# Altium integrated library MCU - AVR.IntLib: 58 symbols (part 2 of 2)
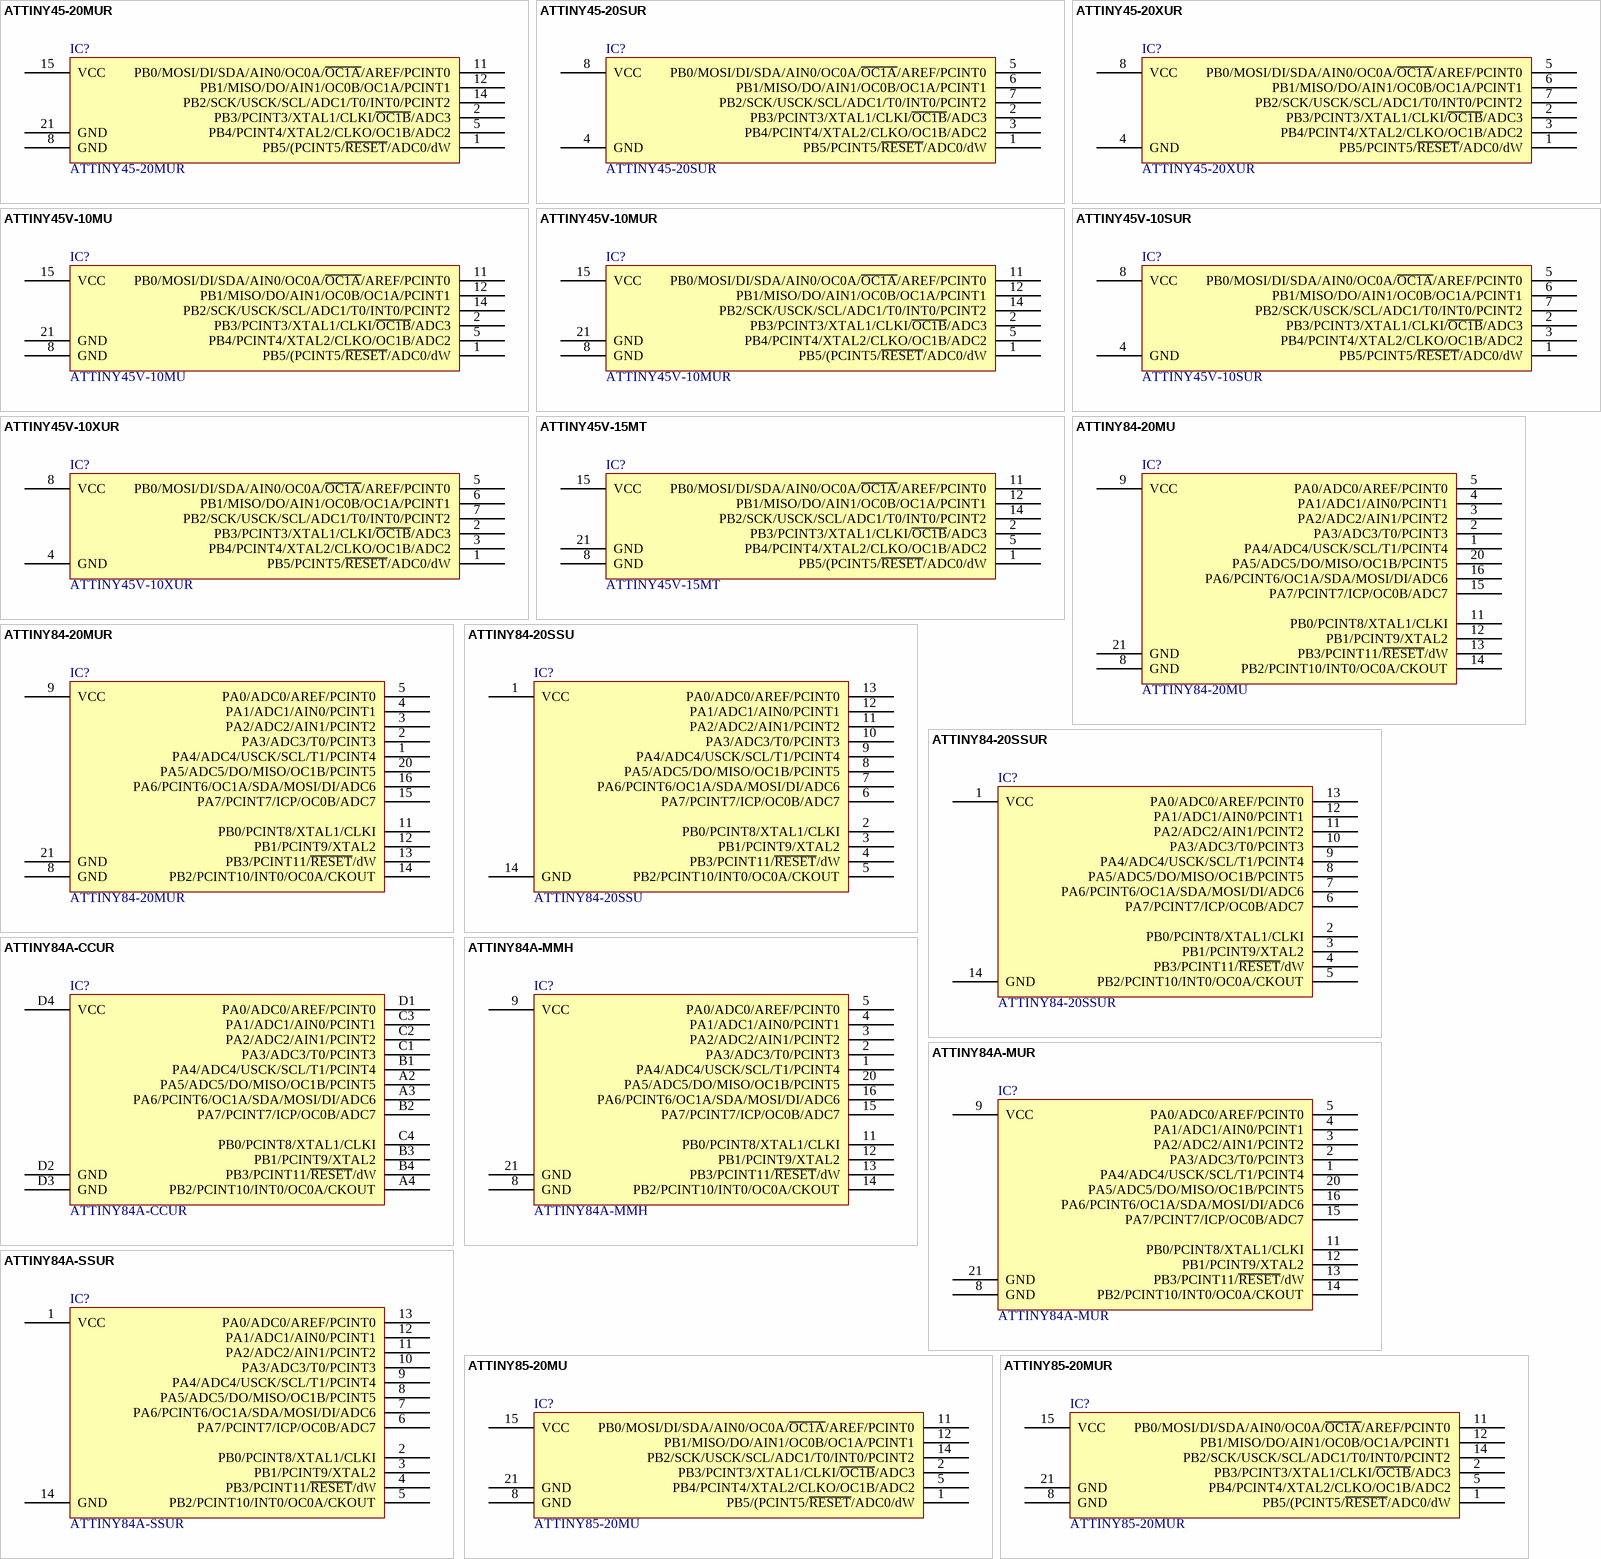
[diagram p4: symbols ATTINY45-20MUR to ATTINY85-20MUR]

## ATTINY84-20MUR
designator IC?
IC MCU 8BIT 8KB FLASH 20QFN; Manufacturer: Atmel; Core Processor: AVR; Core Size: 8-Bit; Speed: 20MHz; Number Of IO: 12; Program Memory Size: 8KB (4K x 16); EEPROM Size: 512 x 8; Data Converters: A/D 8x10b; Oscillator Type: Internal; Part Number: ATTINY84-20MUR; PartId: 9202; Supplier 1: Digi-Key; Supplier Part Number 1: ATTINY84-20MURTR-ND; ComponentLink1Description: Datasheet; ComponentLink1URL: http://www.atmel.com/Images/8006s.pdf; ComponentLink2Description: Digi-Key Listing; ComponentLink2URL: https://www.digikey.com/product-detail/en/ATTINY84-20MUR/ATTINY84-20MURTR-ND/2357431; Price: 1.7787; Device Package: 20-WFQFN Exposed Pad; Series: AVR® ATtiny; Program Memory Type: FLASH; Ram Size: 512 x 8
footprint Atmel MLF-20 20M1
pins: 1 PA4/ADC4/USCK/SCL/T1/PCINT4, 2 PA3/ADC3/T0/PCINT3, 3 PA2/ADC2/AIN1/PCINT2, 4 PA1/ADC1/AIN0/PCINT1, 5 PA0/ADC0/AREF/PCINT0, 8 GND, 9 VCC, 11 PB0/PCINT8/XTAL1/CLKI, 12 PB1/PCINT9/XTAL2, 13 PB3/PCINT11/~{RESET}/dW, 14 PB2/PCINT10/INT0/OC0A/CKOUT, 15 PA7/PCINT7/ICP/OC0B/ADC7, 16 PA6/PCINT6/OC1A/SDA/MOSI/DI/ADC6, 20 PA5/ADC5/DO/MISO/OC1B/PCINT5, 21 GND

## ATTINY84-20SSU
designator IC?
IC MCU 8BIT 8KB FLASH 14SOIC; Manufacturer: Atmel; Core Processor: AVR; Core Size: 8-Bit; Speed: 20MHz; Number Of IO: 12; Program Memory Size: 8KB (4K x 16); EEPROM Size: 512 x 8; Data Converters: A/D 8x10b; Oscillator Type: Internal; Part Number: ATTINY84-20SSU; PartId: 9193; Supplier 1: Digi-Key; Supplier Part Number 1: ATTINY84-20SSU-ND; ComponentLink1Description: Datasheet; ComponentLink1URL: http://www.atmel.com/Images/8006s.pdf; ComponentLink2Description: Digi-Key Listing; ComponentLink2URL: https://www.digikey.com/product-detail/en/ATTINY84-20SSU/ATTINY84-20SSU-ND/1886247; Price: 3.4; Device Package: 14-SOIC (0.154", 3.90mm Width); Series: AVR® ATtiny; Program Memory Type: FLASH; Ram Size: 512 x 8
footprint Atmel SO-14 14S1
pins: 1 VCC, 2 PB0/PCINT8/XTAL1/CLKI, 3 PB1/PCINT9/XTAL2, 4 PB3/PCINT11/~{RESET}/dW, 5 PB2/PCINT10/INT0/OC0A/CKOUT, 6 PA7/PCINT7/ICP/OC0B/ADC7, 7 PA6/PCINT6/OC1A/SDA/MOSI/DI/ADC6, 8 PA5/ADC5/DO/MISO/OC1B/PCINT5, 9 PA4/ADC4/USCK/SCL/T1/PCINT4, 10 PA3/ADC3/T0/PCINT3, 11 PA2/ADC2/AIN1/PCINT2, 12 PA1/ADC1/AIN0/PCINT1, 13 PA0/ADC0/AREF/PCINT0, 14 GND

## ATTINY84-20SSUR
designator IC?
IC MCU 8BIT 8KB FLASH 14SOIC; Manufacturer: Atmel; Core Processor: AVR; Core Size: 8-Bit; Speed: 20MHz; Number Of IO: 12; Program Memory Size: 8KB (4K x 16); EEPROM Size: 512 x 8; Data Converters: A/D 8x10b; Oscillator Type: Internal; Part Number: ATTINY84-20SSUR; PartId: 9196; Supplier 1: Digi-Key; Supplier Part Number 1: ATTINY84-20SSURTR-ND; ComponentLink1Description: Datasheet; ComponentLink1URL: http://www.atmel.com/Images/8006s.pdf; ComponentLink2Description: Digi-Key Listing; ComponentLink2URL: https://www.digikey.com/product-detail/en/ATTINY84-20SSUR/ATTINY84-20SSURTR-ND/2357433; Price: 1.7187; Device Package: 14-SOIC (0.154", 3.90mm Width); Series: AVR® ATtiny; Program Memory Type: FLASH; Ram Size: 512 x 8
footprint Atmel SO-14 14S1
pins: 1 VCC, 2 PB0/PCINT8/XTAL1/CLKI, 3 PB1/PCINT9/XTAL2, 4 PB3/PCINT11/~{RESET}/dW, 5 PB2/PCINT10/INT0/OC0A/CKOUT, 6 PA7/PCINT7/ICP/OC0B/ADC7, 7 PA6/PCINT6/OC1A/SDA/MOSI/DI/ADC6, 8 PA5/ADC5/DO/MISO/OC1B/PCINT5, 9 PA4/ADC4/USCK/SCL/T1/PCINT4, 10 PA3/ADC3/T0/PCINT3, 11 PA2/ADC2/AIN1/PCINT2, 12 PA1/ADC1/AIN0/PCINT1, 13 PA0/ADC0/AREF/PCINT0, 14 GND

## ATTINY84A-CCUR
designator IC?
IC MCU 8BIT 8KB FLASH 15UFBGA; Manufacturer: Atmel; Core Processor: AVR; Core Size: 8-Bit; Speed: 20MHz; Number Of IO: 12; Program Memory Size: 8KB (4K x 16); EEPROM Size: 512 x 8; Data Converters: A/D 8x10b; Oscillator Type: Internal; Part Number: ATTINY84A-CCUR; PartId: 9192; Supplier 1: Digi-Key; Supplier Part Number 1: ATTINY84A-CCURTR-ND; ComponentLink1Description: Datasheet; ComponentLink1URL: http://www.atmel.com/Images/8183s.pdf; ComponentLink2Description: Digi-Key Listing; ComponentLink2URL: https://www.digikey.com/product-detail/en/ATTINY84A-CCUR/ATTINY84A-CCURTR-ND/2774106; Price: 0.8337; Device Package: 15-UFBGA; Series: AVR® ATtiny; Program Memory Type: FLASH; Ram Size: 512 x 8
footprint Atmel BGA-15 3x3mm 15CC1
pins: A2 PA5/ADC5/DO/MISO/OC1B/PCINT5, A3 PA6/PCINT6/OC1A/SDA/MOSI/DI/ADC6, A4 PB2/PCINT10/INT0/OC0A/CKOUT, B1 PA4/ADC4/USCK/SCL/T1/PCINT4, B2 PA7/PCINT7/ICP/OC0B/ADC7, B3 PB1/PCINT9/XTAL2, B4 PB3/PCINT11/~{RESET}/dW, C1 PA3/ADC3/T0/PCINT3, C2 PA2/ADC2/AIN1/PCINT2, C3 PA1/ADC1/AIN0/PCINT1, C4 PB0/PCINT8/XTAL1/CLKI, D1 PA0/ADC0/AREF/PCINT0, D2 GND, D3 GND, D4 VCC

## ATTINY84A-MMH
designator IC?
IC MCU 8BIT 8KB FLASH 20VQFN; Manufacturer: Atmel; Core Processor: AVR; Core Size: 8-Bit; Speed: 20MHz; Number Of IO: 12; Program Memory Size: 8KB (4K x 16); EEPROM Size: 512 x 8; Data Converters: A/D 8x10b; Oscillator Type: Internal; Part Number: ATTINY84A-MMH; PartId: 9189; Supplier 1: Digi-Key; Supplier Part Number 1: ATTINY84A-MMH-ND; ComponentLink1Description: Datasheet; ComponentLink1URL: http://www.atmel.com/Images/8183s.pdf; ComponentLink2Description: Digi-Key Listing; ComponentLink2URL: https://www.digikey.com/product-detail/en/ATTINY84A-MMH/ATTINY84A-MMH-ND/3046449; Price: 1.87; Device Package: 20-VFQFN Exposed Pad; Series: AVR® ATtiny; Program Memory Type: FLASH; Ram Size: 512 x 8
footprint Atmel VQFN-20 3x3mm 20M2
pins: 1 PA4/ADC4/USCK/SCL/T1/PCINT4, 2 PA3/ADC3/T0/PCINT3, 3 PA2/ADC2/AIN1/PCINT2, 4 PA1/ADC1/AIN0/PCINT1, 5 PA0/ADC0/AREF/PCINT0, 8 GND, 9 VCC, 11 PB0/PCINT8/XTAL1/CLKI, 12 PB1/PCINT9/XTAL2, 13 PB3/PCINT11/~{RESET}/dW, 14 PB2/PCINT10/INT0/OC0A/CKOUT, 15 PA7/PCINT7/ICP/OC0B/ADC7, 16 PA6/PCINT6/OC1A/SDA/MOSI/DI/ADC6, 20 PA5/ADC5/DO/MISO/OC1B/PCINT5, 21 GND

## ATTINY84A-MUR
designator IC?
IC MCU 8BIT 8KB FLASH 20QFN; Manufacturer: Atmel; Core Processor: AVR; Core Size: 8-Bit; Speed: 20MHz; Number Of IO: 12; Program Memory Size: 8KB (4K x 16); EEPROM Size: 512 x 8; Data Converters: A/D 8x10b; Oscillator Type: Internal; Part Number: ATTINY84A-MUR; PartId: 9182; Supplier 1: Digi-Key; Supplier Part Number 1: ATTINY84A-MURTR-ND; ComponentLink1Description: Datasheet; ComponentLink1URL: http://www.atmel.com/Images/8183s.pdf; ComponentLink2Description: Digi-Key Listing; ComponentLink2URL: https://www.digikey.com/product-detail/en/ATTINY84A-MUR/ATTINY84A-MURTR-ND/2774108; Price: 0.825; Device Package: 20-WFQFN Exposed Pad; Series: AVR® ATtiny; Program Memory Type: FLASH; Ram Size: 512 x 8
footprint Atmel MLF-20 20M1
pins: 1 PA4/ADC4/USCK/SCL/T1/PCINT4, 2 PA3/ADC3/T0/PCINT3, 3 PA2/ADC2/AIN1/PCINT2, 4 PA1/ADC1/AIN0/PCINT1, 5 PA0/ADC0/AREF/PCINT0, 8 GND, 9 VCC, 11 PB0/PCINT8/XTAL1/CLKI, 12 PB1/PCINT9/XTAL2, 13 PB3/PCINT11/~{RESET}/dW, 14 PB2/PCINT10/INT0/OC0A/CKOUT, 15 PA7/PCINT7/ICP/OC0B/ADC7, 16 PA6/PCINT6/OC1A/SDA/MOSI/DI/ADC6, 20 PA5/ADC5/DO/MISO/OC1B/PCINT5, 21 GND

## ATTINY84A-SSUR
designator IC?
IC MCU 8BIT 8KB FLASH 14SOIC; Manufacturer: Atmel; Core Processor: AVR; Core Size: 8-Bit; Speed: 20MHz; Number Of IO: 12; Program Memory Size: 8KB (4K x 16); EEPROM Size: 512 x 8; Data Converters: A/D 8x10b; Oscillator Type: Internal; Part Number: ATTINY84A-SSUR; PartId: 9185; Supplier 1: Digi-Key; Supplier Part Number 1: ATTINY84A-SSURTR-ND; ComponentLink1Description: Datasheet; ComponentLink1URL: http://www.atmel.com/Images/8183s.pdf; ComponentLink2Description: Digi-Key Listing; ComponentLink2URL: https://www.digikey.com/product-detail/en/ATTINY84A-SSUR/ATTINY84A-SSURTR-ND/2774109; Price: 0.775; Device Package: 14-SOIC (0.154", 3.90mm Width); Series: AVR® ATtiny; Program Memory Type: FLASH; Ram Size: 512 x 8
footprint Atmel SO-14 14S1
pins: 1 VCC, 2 PB0/PCINT8/XTAL1/CLKI, 3 PB1/PCINT9/XTAL2, 4 PB3/PCINT11/~{RESET}/dW, 5 PB2/PCINT10/INT0/OC0A/CKOUT, 6 PA7/PCINT7/ICP/OC0B/ADC7, 7 PA6/PCINT6/OC1A/SDA/MOSI/DI/ADC6, 8 PA5/ADC5/DO/MISO/OC1B/PCINT5, 9 PA4/ADC4/USCK/SCL/T1/PCINT4, 10 PA3/ADC3/T0/PCINT3, 11 PA2/ADC2/AIN1/PCINT2, 12 PA1/ADC1/AIN0/PCINT1, 13 PA0/ADC0/AREF/PCINT0, 14 GND

## ATTINY85-20MU
designator IC?
IC MCU 8BIT 8KB FLASH 20QFN; Manufacturer: Atmel; Core Processor: AVR; Core Size: 8-Bit; Speed: 20MHz; Number Of IO: 6; Program Memory Size: 8KB (4K x 16); EEPROM Size: 512 x 8; Data Converters: A/D 4x10b; Oscillator Type: Internal; Part Number: ATTINY85-20MU; PartId: 9174; Supplier 1: Digi-Key; Supplier Part Number 1: ATTINY85-20MU-ND; ComponentLink1Description: Datasheet; ComponentLink1URL: http://www.atmel.com/Images/Atmel-2586-AVR-8-bit-Microcontroller-ATtiny25-ATtiny45-ATtiny85_Datasheet-Summary.pdf; ComponentLink2Description: Digi-Key Listing; ComponentLink2URL: https://www.digikey.com/product-detail/en/ATTINY85-20MU/ATTINY85-20MU-ND/1245919; Price: 1.65; Device Package: 20-WFQFN Exposed Pad; Series: AVR® ATtiny; Program Memory Type: FLASH; Ram Size: 512 x 8
footprint Atmel MLF-20 20M1
pins: 1 PB5/(PCINT5/~{RESET}/ADC0/dW, 2 PB3/PCINT3/XTAL1/CLKI/~{OC1B}/ADC3, 5 PB4/PCINT4/XTAL2/CLKO/OC1B/ADC2, 8 GND, 11 PB0/MOSI/DI/SDA/AIN0/OC0A/~{OC1A}/AREF/PCINT0, 12 PB1/MISO/DO/AIN1/OC0B/OC1A/PCINT1, 14 PB2/SCK/USCK/SCL/ADC1/T0/INT0/PCINT2, 15 VCC, 21 GND

## ATTINY85-20MUR
designator IC?
IC MCU 8BIT 8KB FLASH 20QFN; Manufacturer: Atmel; Core Processor: AVR; Core Size: 8-Bit; Speed: 20MHz; Number Of IO: 6; Program Memory Size: 8KB (4K x 16); EEPROM Size: 512 x 8; Data Converters: A/D 4x10b; Oscillator Type: Internal; Part Number: ATTINY85-20MUR; PartId: 9166; Supplier 1: Digi-Key; Supplier Part Number 1: ATTINY85-20MURTR-ND; ComponentLink1Description: Datasheet; ComponentLink1URL: http://www.atmel.com/Images/Atmel-2586-AVR-8-bit-Microcontroller-ATtiny25-ATtiny45-ATtiny85_Datasheet-Summary.pdf; ComponentLink2Description: Digi-Key Listing; ComponentLink2URL: https://www.digikey.com/product-detail/en/ATTINY85-20MUR/ATTINY85-20MURTR-ND/2357439; Price: 0.775; Device Package: 20-WFQFN Exposed Pad; Series: AVR® ATtiny; Program Memory Type: FLASH; Ram Size: 512 x 8
footprint Atmel MLF-20 20M1
pins: 1 PB5/(PCINT5/~{RESET}/ADC0/dW, 2 PB3/PCINT3/XTAL1/CLKI/~{OC1B}/ADC3, 5 PB4/PCINT4/XTAL2/CLKO/OC1B/ADC2, 8 GND, 11 PB0/MOSI/DI/SDA/AIN0/OC0A/~{OC1A}/AREF/PCINT0, 12 PB1/MISO/DO/AIN1/OC0B/OC1A/PCINT1, 14 PB2/SCK/USCK/SCL/ADC1/T0/INT0/PCINT2, 15 VCC, 21 GND

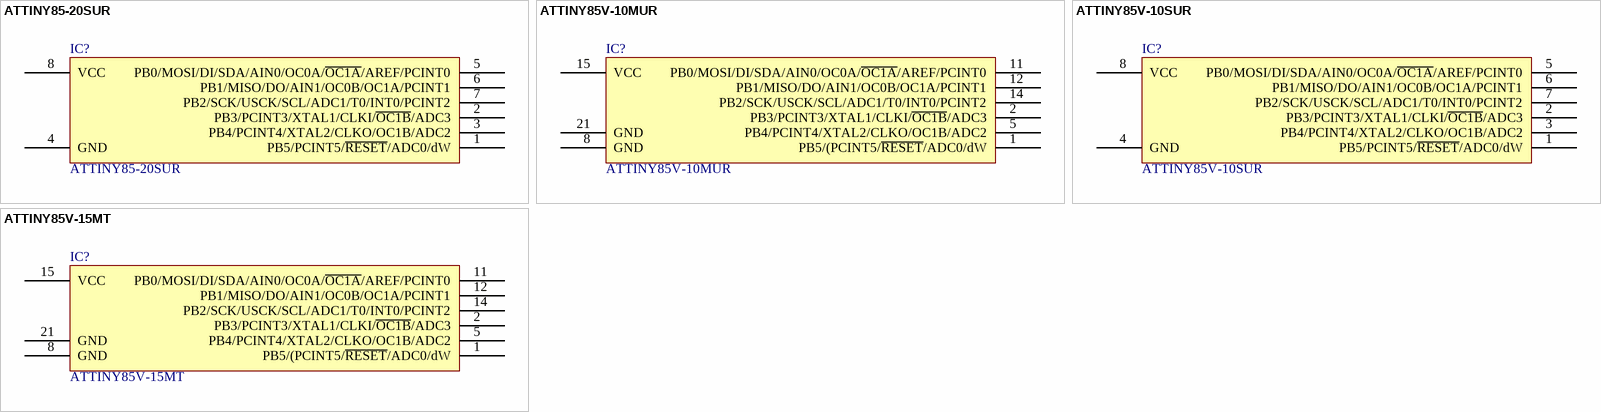
[diagram p3: symbols ATTINY85-20SUR to ATTINY85V-15MT]

## ATTINY85-20SUR
designator IC?
IC MCU 8BIT 8KB FLASH 8SOIC; Manufacturer: Atmel; Core Processor: AVR; Core Size: 8-Bit; Speed: 20MHz; Number Of IO: 6; Program Memory Size: 8KB (4K x 16); EEPROM Size: 512 x 8; Data Converters: A/D 4x10b; Oscillator Type: Internal; Part Number: ATTINY85-20SUR; PartId: 9158; Supplier 1: Digi-Key; Supplier Part Number 1: ATTINY85-20SURTR-ND; ComponentLink1Description: Datasheet; ComponentLink1URL: http://www.atmel.com/Images/Atmel-2586-AVR-8-bit-Microcontroller-ATtiny25-ATtiny45-ATtiny85_Datasheet-Summary.pdf; ComponentLink2Description: Digi-Key Listing; ComponentLink2URL: https://www.digikey.com/product-detail/en/ATTINY85-20SUR/ATTINY85-20SURTR-ND/2357441; Price: 0.725; Device Package: 8-SOIC (0.209", 5.30mm Width); Series: AVR® ATtiny; Program Memory Type: FLASH; Ram Size: 512 x 8
footprint Atmel SO-8 Wide 8S2
pins: 1 PB5/PCINT5/~{RESET}/ADC0/dW, 2 PB3/PCINT3/XTAL1/CLKI/~{OC1B}/ADC3, 3 PB4/PCINT4/XTAL2/CLKO/OC1B/ADC2, 4 GND, 5 PB0/MOSI/DI/SDA/AIN0/OC0A/~{OC1A}/AREF/PCINT0, 6 PB1/MISO/DO/AIN1/OC0B/OC1A/PCINT1, 7 PB2/SCK/USCK/SCL/ADC1/T0/INT0/PCINT2, 8 VCC

## ATTINY85V-10MUR
designator IC?
IC MCU 8BIT 8KB FLASH 20QFN; Manufacturer: Atmel; Core Processor: AVR; Core Size: 8-Bit; Speed: 10MHz; Number Of IO: 6; Program Memory Size: 8KB (4K x 16); EEPROM Size: 512 x 8; Data Converters: A/D 4x10b; Oscillator Type: Internal; Part Number: ATTINY85V-10MUR; PartId: 9169; Supplier 1: Digi-Key; Supplier Part Number 1: ATTINY85V-10MURTR-ND; ComponentLink1Description: Datasheet; ComponentLink1URL: http://www.atmel.com/Images/Atmel-2586-AVR-8-bit-Microcontroller-ATtiny25-ATtiny45-ATtiny85_Datasheet-Summary.pdf; ComponentLink2Description: Digi-Key Listing; ComponentLink2URL: https://www.digikey.com/product-detail/en/ATTINY85V-10MUR/ATTINY85V-10MURTR-ND/2357443; Price: 1.3412; Device Package: 20-WFQFN Exposed Pad; Series: AVR® ATtiny; Program Memory Type: FLASH; Ram Size: 512 x 8
footprint Atmel MLF-20 20M1
pins: 1 PB5/(PCINT5/~{RESET}/ADC0/dW, 2 PB3/PCINT3/XTAL1/CLKI/~{OC1B}/ADC3, 5 PB4/PCINT4/XTAL2/CLKO/OC1B/ADC2, 8 GND, 11 PB0/MOSI/DI/SDA/AIN0/OC0A/~{OC1A}/AREF/PCINT0, 12 PB1/MISO/DO/AIN1/OC0B/OC1A/PCINT1, 14 PB2/SCK/USCK/SCL/ADC1/T0/INT0/PCINT2, 15 VCC, 21 GND

## ATTINY85V-10SUR
designator IC?
IC MCU 8BIT 8KB FLASH 8SOIC; Manufacturer: Atmel; Core Processor: AVR; Core Size: 8-Bit; Speed: 10MHz; Number Of IO: 6; Program Memory Size: 8KB (4K x 16); EEPROM Size: 512 x 8; Data Converters: A/D 4x10b; Oscillator Type: Internal; Part Number: ATTINY85V-10SUR; PartId: 9159; Supplier 1: Digi-Key; Supplier Part Number 1: ATTINY85V-10SURTR-ND; ComponentLink1Description: Datasheet; ComponentLink1URL: http://www.atmel.com/Images/Atmel-2586-AVR-8-bit-Microcontroller-ATtiny25-ATtiny45-ATtiny85_Datasheet-Summary.pdf; ComponentLink2Description: Digi-Key Listing; ComponentLink2URL: https://www.digikey.com/product-detail/en/ATTINY85V-10SUR/ATTINY85V-10SURTR-ND/2357444; Price: 1.2875; Device Package: 8-SOIC (0.209", 5.30mm Width); Series: AVR® ATtiny; Program Memory Type: FLASH; Ram Size: 512 x 8
footprint Atmel SO-8 Wide 8S2
pins: 1 PB5/PCINT5/~{RESET}/ADC0/dW, 2 PB3/PCINT3/XTAL1/CLKI/~{OC1B}/ADC3, 3 PB4/PCINT4/XTAL2/CLKO/OC1B/ADC2, 4 GND, 5 PB0/MOSI/DI/SDA/AIN0/OC0A/~{OC1A}/AREF/PCINT0, 6 PB1/MISO/DO/AIN1/OC0B/OC1A/PCINT1, 7 PB2/SCK/USCK/SCL/ADC1/T0/INT0/PCINT2, 8 VCC

## ATTINY85V-15MT
designator IC?
IC MCU 8BIT 8KB FLASH 20QFN; Manufacturer: Atmel; Core Processor: AVR; Core Size: 8-Bit; Speed: 8MHz; Number Of IO: 6; Program Memory Size: 8KB (4K x 16); EEPROM Size: 512 x 8; Data Converters: A/D 4x10b; Oscillator Type: Internal; Part Number: ATTINY85V-15MT; PartId: 9172; Supplier 1: Digi-Key; Supplier Part Number 1: ATTINY85V-15MTTR-ND; ComponentLink1Description: Datasheet; ComponentLink1URL: http://www.atmel.com/Images/Atmel-7598_Automotive-Microcontrollers-ATtiny25-45-85_Datasheet.pdf; ComponentLink2Description: Digi-Key Listing; ComponentLink2URL: https://www.digikey.com/product-detail/en/ATTINY85V-15MT/ATTINY85V-15MTTR-ND/1914733; Price: 2.1; Device Package: 20-WFQFN Exposed Pad; Series: AVR® ATtiny; Program Memory Type: FLASH; Ram Size: 512 x 8
footprint Atmel MLF-20 20M1
pins: 1 PB5/(PCINT5/~{RESET}/ADC0/dW, 2 PB3/PCINT3/XTAL1/CLKI/~{OC1B}/ADC3, 5 PB4/PCINT4/XTAL2/CLKO/OC1B/ADC2, 8 GND, 11 PB0/MOSI/DI/SDA/AIN0/OC0A/~{OC1A}/AREF/PCINT0, 12 PB1/MISO/DO/AIN1/OC0B/OC1A/PCINT1, 14 PB2/SCK/USCK/SCL/ADC1/T0/INT0/PCINT2, 15 VCC, 21 GND